# Altium footprint library jx.PcbLib: 37 footprints (part 2 of 3)
Each footprint in its own frame and in the unit in brackets; x right, y up, seen from the top. Pads: shape width x height; smd on the part's side, far side on the other; paste and mask are expansions set on the pad; w line width, h text height; cw(c..) or ccw(c..) is an arc to the next point about the centre after c.
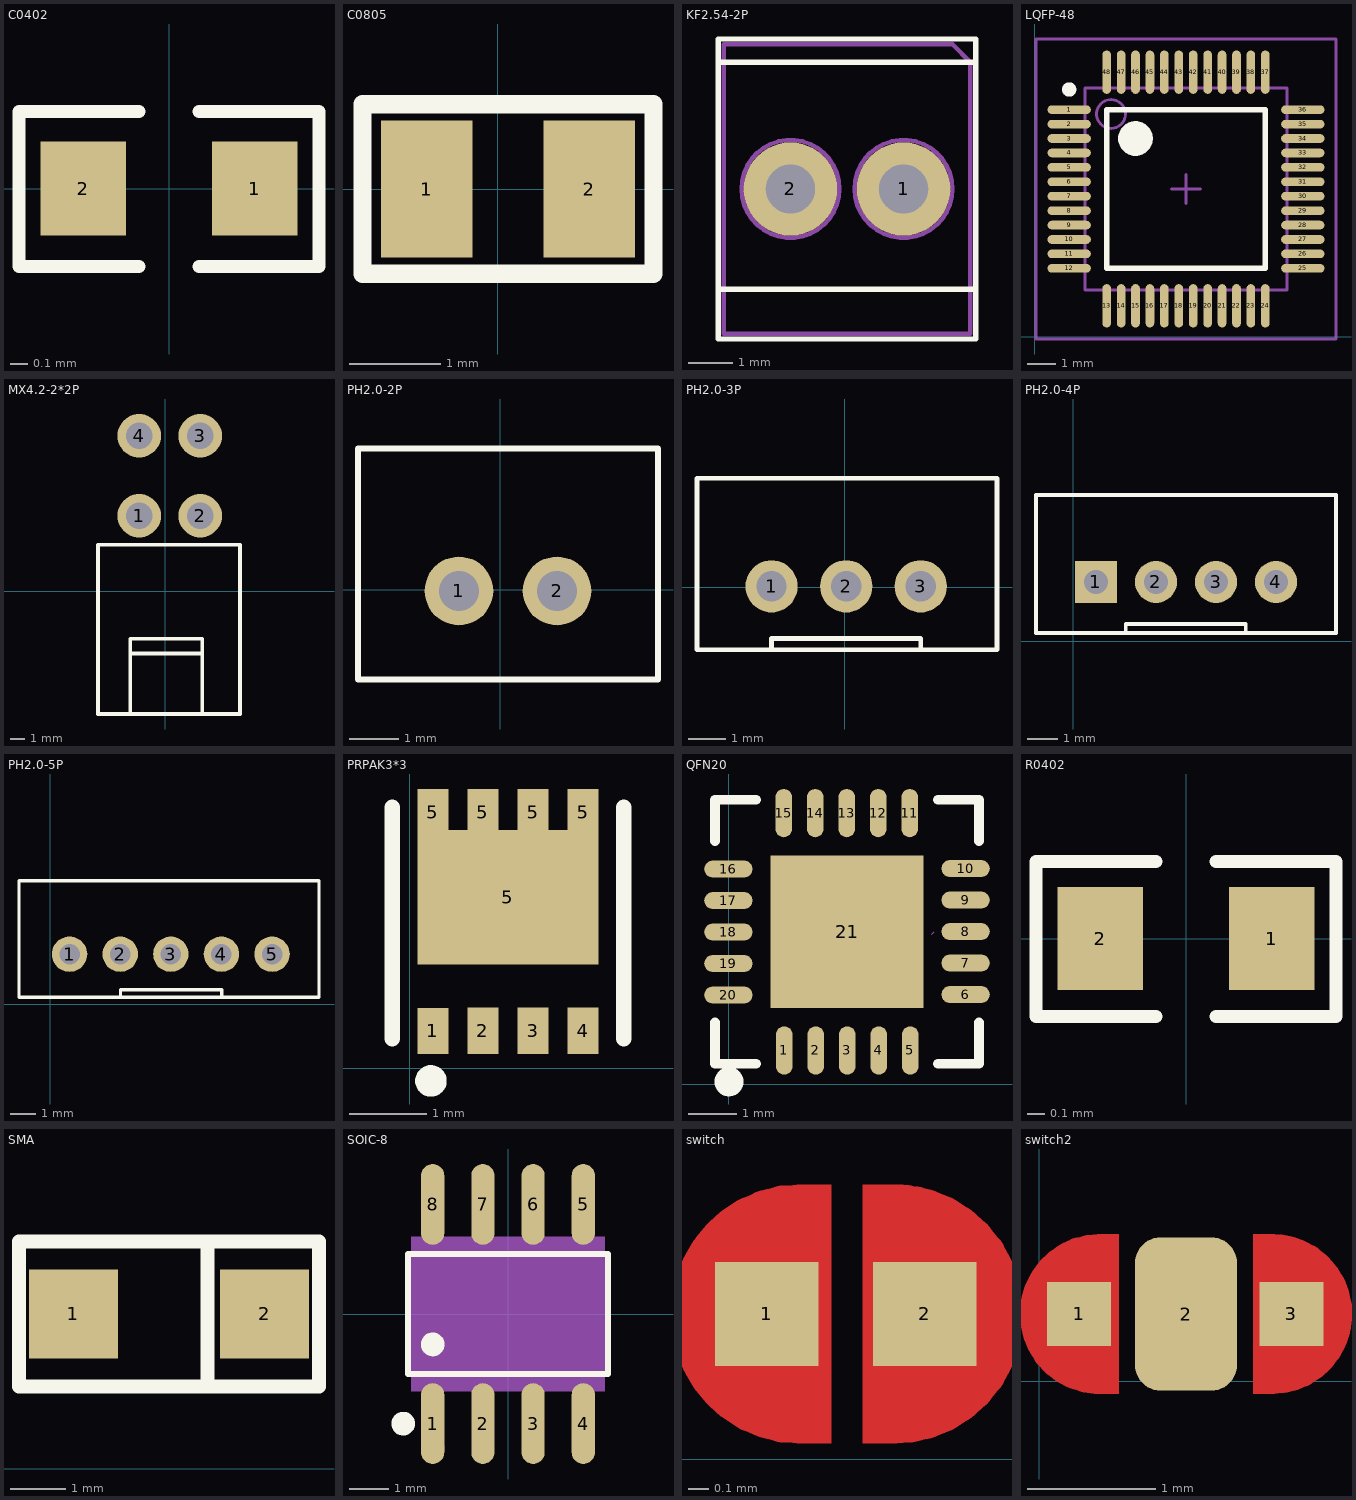
[diagram p1: the footprints below, top view; thin cyan lines are the x and y axes]

## C0402 [mm]
pads (2):
  rect 0.5x0.55 smd: 1(0.5,0) 2(-0.5,0)
Top Overlay:
  lines w0.075: -0.875,-0.456 -0.175,-0.456 ; -0.875,-0.45 -0.875,0.45 -0.175,0.45 ; 0.175,-0.456 0.875,-0.456 ; 0.175,0.45 0.875,0.45 0.875,-0.45
3D body "0402_C.step": height 0.49, standoff 0, extent -0.5,-0.246 0.5,0.254

## C0805 [mm]
pads (2):
  rect 1x1.5 smd: 1(-0.775,0) 2(1,0)
Top Overlay:
  lines w0.2: -1.475,-0.925 -1.475,0.925 1.7,0.925 1.7,-0.925 -1.475,-0.925
3D body: height 1, standoff 0, extent 0.897,-0.741 1.219,0.732
3D body: height 1, standoff 0, extent -0.652,-0.741 0.897,0.732
3D body: height 1, standoff 0, extent -1.016,-0.741 -0.652,0.732

## KF2.54-2P [mm]
pads (2):
  round 2.1 hole 1.1 slot 1.1 at 0 deg: 1(213.3,-138.25) 2(210.76,-138.25)
Top Overlay:
  lines w0.12: 209.14,-140.5 214.92,-140.5 ; 209.14,-135.4 214.92,-135.4 ; 209.14,-141.62 209.14,-134.88 214.92,-134.88 214.92,-141.62 209.14,-141.62
Mechanical 15:
  lines w0.1: 209.26,-140.5 214.8,-140.5 ; 209.26,-135.4 214.8,-135.4 ; 209.659,-138.25 ccw(c210.76,-138.247) 209.659,-138.244 ; 209.925,-138.95 211.46,-137.415 ; 210.059,-139.085 211.594,-137.55 ; 212.199,-138.25 ccw(c213.3,-138.247) 212.199,-138.244 ; 212.465,-138.95 214.001,-137.415 ; 212.599,-139.085 214.134,-137.55 ; 214.8,-135.4 214.8,-141.5 209.26,-141.5 209.26,-135 214.4,-135 214.8,-135.4
  text "J6" at 211.23,-136.75 h1
3D body "397730002.STEP": height 10.01, standoff -3.4, extent 209.271,-141.3 214.808,-134.798

## LQFP-48 [mm]
pads (48):
  oval 1.5x0.3 smd: 1(1.2,7.872) 2(1.2,7.372) 3(1.2,6.872) 4(1.2,6.372) 5(1.2,5.872) 6(1.2,5.372) 7(1.2,4.872) 8(1.2,4.372) 9(1.2,3.872) 10(1.2,3.372) 11(1.2,2.872) 12(1.2,2.372) 25(9.3,2.372) 26(9.3,2.872) 27(9.3,3.372) 28(9.3,3.872) 29(9.3,4.372) 30(9.3,4.872) 31(9.3,5.372) 32(9.3,5.872) 33(9.3,6.372) 34(9.3,6.872) 35(9.3,7.372) 36(9.3,7.872)
  oval 0.3x1.5 smd: 13(2.5,1.072) 14(3,1.072) 15(3.5,1.072) 16(4,1.072) 17(4.5,1.072) 18(5,1.072) 19(5.5,1.072) 20(6,1.072) 21(6.5,1.072) 22(7,1.072) 23(7.5,1.072) 24(8,1.072) 37(8,9.172) 38(7.5,9.172) 39(7,9.172) 40(6.5,9.172) 41(6,9.172) 42(5.5,9.172) 43(5,9.172) 44(4.5,9.172) 45(4,9.172) 46(3.5,9.172) 47(3,9.172) 48(2.5,9.172)
Top Overlay:
  circle w0.6: c3.5,6.872 r0.3
  circle w0.25: c1.2,8.572 r0.125
  lines w0.2: 2.5,2.372 8,2.372 8,7.872 2.5,7.872 2.5,2.372
Mechanical 13:
  circle w0.1: c2.65,7.722 r0.5
  lines w0.1: 1.75,1.622 8.75,1.622 8.75,8.622 1.75,8.622 1.75,1.622
Mechanical 15:
  lines w0.1: 4.75,5.122 5.75,5.122 ; 5.25,4.622 5.25,5.622 ; 0.05,-0.078 10.45,-0.078 10.45,10.322 0.05,10.322 0.05,-0.078
3D body "LQFP48 7X7.STEP": height 1.45, standoff 0, extent 0.737,0.596 9.742,9.601

## MX4.2-2*2P [mm]
pads (4):
  round 3 hole 1.8: 1(-1.804,5.185) 2(2.396,5.185) 3(2.396,10.685) 4(-1.804,10.685)
Top Overlay:
  lines w0.254: -2.413,-8.353 -2.413,-3.273 2.54,-3.273 2.54,-8.353 ; -2.413,-4.289 2.413,-4.289 ; -4.637,-8.453 5.131,-8.453 5.131,3.2 -4.637,3.2 -4.637,-8.453
3D body "a026013128.STEP": height 11.5, standoff -3.5, extent -4.495,-8.748 5.105,11.187

## PH2.0-2P [mm]
pads (2):
  round 1.4 hole 0.813: 1(-0.843,-0.024) 2(1.157,-0.024)
Top Overlay:
  lines w0.12: -2.903,-1.834 3.217,-1.834 3.217,2.886 -2.903,2.886 -2.903,-1.834
3D body "PH2.0-LI-2P.STEP": height 6.01, standoff -2.99, extent -2.798,-1.753 3.102,2.947

## PH2.0-3P [mil]
pads (3):
  round 55.12 hole 32: 1(-77,1) 2(1.74,1) 3(80.48,1)
Top Overlay:
  lines w5.12: -77,-65.93 -77,-54.12 80.48,-54.12 80.48,-65.93 ; -155.74,-65.93 -155.74,115.17 161,115.17 161,-65.93 -37.97,-65.93 -155.74,-65.93
3D body "PH2.0-LI-3P.STEP": height 236.72, standoff -117.61, extent -153.77,-65.04 157.25,120

## PH2.0-4P [mil]
pads (4):
  rect 55.12x55.12 hole 32: 1(30,78)
  round 55.12 hole 32: 2(108.74,78) 3(187.48,78) 4(266.22,78)
Top Overlay:
  lines w5.12: 226.51,11.07 226.51,22.88 69.03,22.88 69.03,11.07 ; 69.03,11.07 344.96,11.07 344.96,192.17 -48.74,192.17 -48.74,11.07 69.03,11.07
3D body "PH2.0-LI-4P.STEP": height 236.72, standoff -117.61, extent -47.65,11.48 342.11,196.52

## PH2.0-5P [mil]
pads (5):
  round 55.12 hole 32: 1(30,78) 2(108.74,78) 3(187.48,78) 4(266.22,78) 5(344.96,78)
Top Overlay:
  lines w5.12: 109.03,11.07 109.03,22.88 266.51,22.88 266.51,11.07 ; -48.74,11.07 -48.74,192.17 418,192.17 418,11.07 69.03,11.07 -48.74,11.07
3D body "PH2.0-LI-5P.STEP": height 236.72, standoff -117.61, extent -47.52,10.48 420.99,195.52

## PRPAK3*3 [mm]
pads (9):
  rect 0.4x0.6 smd: 1(0.301,0.486) 2(0.951,0.486) 3(1.601,0.486) 4(2.251,0.486) 5(0.3,3.325) 5(0.95,3.325) 5(1.6,3.325) 5(2.25,3.325)
  rect 2.35x1.75 smd: 5(1.276,2.22)
Top Overlay:
  circle w0.2: c0.276,-0.164 r0.105
  lines w0.2: -0.224,0.386 -0.224,3.386 ; 2.776,0.386 2.776,3.386
Top Paste:
  region: 2.451,3.625 2.451,1.345 0.101,1.345 0.101,3.625 0.501,3.625 0.501,3.095 0.751,3.095 0.751,3.625 1.151,3.625 1.151,3.095 1.401,3.095 1.401,3.625 1.801,3.625 1.801,3.095 2.051,3.095 2.051,3.625
  region: 2.051,0.185 2.051,0.785 2.451,0.785 2.451,0.185
  region: 1.401,0.185 1.401,0.785 1.801,0.785 1.801,0.185
  region: 0.751,0.185 0.751,0.785 1.151,0.785 1.151,0.185
  region: 0.101,0.185 0.101,0.785 0.501,0.785 0.501,0.185
3D body: height 0.25, standoff 0, extent -0.203,0.401 2.794,3.399
3D body: height 0.2, standoff 0, extent 0.102,3.023 0.508,3.531
3D body: height 0.2, standoff 0, extent 0.762,3.023 1.168,3.531
3D body: height 0.2, standoff 0, extent 1.396,3.023 1.803,3.536
3D body: height 0.2, standoff 0, extent 2.04,3.023 2.438,3.531
3D body: height 0.2, standoff 0, extent 0.102,0.279 0.508,0.787
3D body: height 0.2, standoff 0, extent 0.762,0.279 1.168,0.787
3D body: height 0.2, standoff 0, extent 1.396,0.279 1.803,0.793
3D body: height 0.2, standoff 0, extent 2.04,0.279 2.438,0.787

## QFN20 [mm]
pads (21):
  oval 0.35x0.996 smd: 1(1.145,0.695) 2(1.795,0.695) 3(2.445,0.695) 4(3.096,0.695) 5(3.746,0.695) 11(3.736,5.595) 12(3.085,5.595) 13(2.435,5.595) 14(1.785,5.595) 15(1.135,5.595)
  oval 0.996x0.35 smd: 6(4.89,1.849) 7(4.89,2.5) 8(4.89,3.15) 9(4.89,3.8) 10(4.89,4.45) 16(-0.01,4.44) 17(-0.01,3.79) 18(-0.01,3.14) 19(-0.01,2.489) 20(-0.01,1.839)
  rect 3.15x3.15 smd: 21(2.44,3.145)
Top Overlay:
  lines w0.2: -0.285,1.27 -0.285,0.42 0.565,0.42 ; -0.285,5.02 -0.285,5.87 0.565,5.87 ; 4.315,0.42 5.165,0.42 5.165,1.27 ; 4.315,5.87 5.165,5.87 5.165,5.02
  lines w0.3: 0.002,0.198 ccw(c0.003,0.048) 0.004,0.198
Top Paste:
  region: 0.99,2.995 2.29,2.995 2.29,1.695 0.99,1.695
  region: 3.89,1.695 2.59,1.695 2.59,2.995 3.89,2.995
  region: 3.89,3.295 2.59,3.295 2.59,4.595 3.89,4.595
  region: 0.99,4.595 2.29,4.595 2.29,3.295 0.99,3.295
Mechanical 15:
  lines w0.003: 4.193,3.097 4.244,3.148
3D body "QFN28-5X5.STEP": height 0.75, standoff -0.05, extent -0.051,0.644 4.969,5.664

## R0402 [mm]
pads (2):
  rect 0.5x0.6 smd: 1(0.5,0) 2(-0.5,0)
Top Overlay:
  lines w0.075: -0.875,-0.456 -0.175,-0.456 ; -0.875,-0.45 -0.875,0.45 -0.175,0.45 ; 0.175,-0.456 0.875,-0.456 ; 0.175,0.45 0.875,0.45 0.875,-0.45
3D body "0402_R.step": height 0.38, standoff 0.02, extent -0.492,-0.25 0.498,0.258

## SMA [mm]
pads (2):
  rect 1.6x1.6 smd: 1(4.15,2.775) 2(7.575,2.775)
Top Overlay:
  lines w0.254: 6.55,1.474 6.55,4.031 ; 3.175,1.474 8.55,1.474 8.55,4.075 3.175,4.075 3.175,1.474
3D body "SMA.STEP": height 2.15, standoff 0.04, extent 3.323,1.418 8.419,4.018

## SOIC-8 [mm]
pads (8):
  oval 0.588x2.043 smd: 1(-1.905,-2.773) 2(-0.635,-2.773) 3(0.635,-2.773) 4(1.905,-2.773) 5(1.905,2.773) 6(0.635,2.773) 7(-0.635,2.773) 8(-1.905,2.773)
Top Overlay:
  circle w0.3: c-2.652,-2.772 r0.15
  circle w0.3: c-1.905,-0.769 r0.15
  lines w0.152: -2.526,-1.521 2.526,-1.521 2.526,1.521 -2.526,1.521 -2.526,-1.521
Mechanical 4:
  region: -2.45,-1.95 -2.45,1.95 2.45,1.95 2.45,-1.95
Mechanical 5:
  pour cut-out: 1.695,2.175 1.695,1.94 2.115,1.94 2.115,2.175
  region: 1.695,3 1.695,2.165 2.115,2.165 2.115,3
  pour cut-out: 0.425,2.175 0.425,1.94 0.845,1.94 0.845,2.175
  region: 0.425,3 0.425,2.165 0.845,2.165 0.845,3
  pour cut-out: -0.845,2.175 -0.845,1.94 -0.425,1.94 -0.425,2.175
  region: -0.845,3 -0.845,2.165 -0.425,2.165 -0.425,3
  pour cut-out: -2.115,2.175 -2.115,1.94 -1.695,1.94 -1.695,2.175
  region: -2.115,3 -2.115,2.165 -1.695,2.165 -1.695,3
  pour cut-out: 1.695,-2.175 1.695,-1.94 2.115,-1.94 2.115,-2.175
  region: 1.695,-3 1.695,-2.165 2.115,-2.165 2.115,-3
  pour cut-out: 0.425,-2.175 0.425,-1.94 0.845,-1.94 0.845,-2.175
  region: 0.425,-3 0.425,-2.165 0.845,-2.165 0.845,-3
  pour cut-out: -0.845,-2.175 -0.845,-1.94 -0.425,-1.94 -0.425,-2.175
  region: -0.845,-3 -0.845,-2.165 -0.425,-2.165 -0.425,-3
  pour cut-out: -2.115,-2.175 -2.115,-1.94 -1.695,-1.94 -1.695,-2.175
  region: -2.115,-3 -2.115,-2.165 -1.695,-2.165 -1.695,-3
Mechanical 15:
  circle w0.3: c-1.905,-3.4 r0.15
3D body "SOIC8_4P9X3P9MC_MCH.step": height 1.75, standoff 0, extent -2.426,-3.023 2.476,3.175

## switch [mm]
pads (2):
  rect 0.5x0.5 smd mask+0: 1(4.039,0.7) 2(4.8,0.7)
Top Layer:
  region: 5.05,1.15 4.575,1.15 4.575,0.3 5.05,0.3
  rectangle: 3.8,0.25 4.275,1.1
  region: 4.65,0.075 4.65,1.325 4.5,1.325 4.5,0.075
  region: 4.2,1.325 4.2,0.075 4.35,0.075 4.35,1.325
  lines w0.254: 4.2,0.201 cw(c4.2,0.7) 4.039,0.228 cw(c4.2,0.7) 3.701,0.701 cw(c4.2,0.7) 4.034,1.171 cw(c4.2,0.7) 4.039,1.172 cw(c4.2,0.7) 4.2,1.199 ; 4.65,0.201 ccw(c4.65,0.7) 4.8,0.224 ccw(c4.65,0.7) 4.8,1.176 ccw(c4.65,0.7) 4.709,1.195 ccw(c4.65,0.7) 4.65,1.199
Top Solder:
  region: 5.05,1.15 4.575,1.15 4.575,0.3 5.05,0.3
  rectangle: 3.8,0.25 4.275,1.1
  region: 4.65,0.075 4.65,1.325 4.5,1.325 4.5,0.075
  region: 4.2,1.325 4.2,0.075 4.35,0.075 4.35,1.325
  lines w0.254: 4.2,0.201 cw(c4.2,0.7) 4.2,1.199 ; 4.65,0.201 ccw(c4.65,0.7) 4.65,1.199

## switch2 [mm]
pads (3):
  rect 0.5x0.5 smd mask+0: 1(0.314,0.525) 3(1.975,0.525)
  rrect50% 0.8x1.2 smd: 2(1.15,0.525)
Top Layer:
  rectangle: 0.075,0.075 0.55,0.925
  region: 2.225,0.975 1.75,0.975 1.75,0.125 2.225,0.125
  region: 0.475,1.15 0.475,-0.1 0.625,-0.1 0.625,1.15
  region: 1.825,-0.1 1.825,1.15 1.675,1.15 1.675,-0.1
  lines w0.254: 0.475,0.026 cw(c0.475,0.525) 0.45,0.027 cw(c0.475,0.525) 0.475,1.024 ; 1.825,0.026 ccw(c1.825,0.525) 1.975,0.049 ccw(c1.825,0.525) 1.944,1.01 ccw(c1.825,0.525) 1.825,1.024
Top Solder:
  rectangle: 0.075,0.075 0.55,0.925
  region: 2.225,0.975 1.75,0.975 1.75,0.125 2.225,0.125
  region: 0.475,1.15 0.475,-0.1 0.625,-0.1 0.625,1.15
  region: 1.825,-0.1 1.825,1.15 1.675,1.15 1.675,-0.1
  lines w0.254: 0.475,0.026 cw(c0.475,0.525) 0.475,1.024 ; 1.825,0.026 ccw(c1.825,0.525) 1.825,1.024